# Altium schematic symbol library RJxx.SchLib: 2 symbols
Pins are listed as number, name and electrical type; pins without a type are passive.

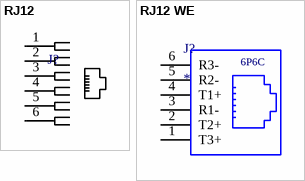
[diagram p0: symbols RJ12 to RJ12 WE]

## RJ12
designator J?  (value not drawn)
Manufacturer: TE CONNECTIVITY / AMP; Manufacturer Part Number: 5520258-3; Supplier 1: Farnell; Supplier Part Number 1: 1214651; Pricing: 10=0.67, 100=0.54, 250=0.48, 600=0.467, 2000=0.463, 6000=0.454, 6000=0.445 (EUR); ComponentLink1URL: http://www.tycoelectronics.com/commerce/DocumentDelivery/DDEController?Action=srchrtrv&DocNm=5520258-3&DocType=Customer+View+Model&DocLang=English; ComponentLink1Description: http://www.tycoelectronics.com/commerce/DocumentDelivery/DDEController?Action=srchrtrv&DocNm=5520258-3&DocType=Customer+View+Model&DocLang=English; ComponentLink2URL: http://www.tycoelectronics.com/commerce/DocumentDelivery/DDEController?Action=srchrtrv&DocNm=5520258&DocType=Customer+Drawing&DocLang=English; ComponentLink2Description: http://www.tycoelectronics.com/commerce/DocumentDelivery/DDEController?Action=srchrtrv&DocNm=5520258&DocType=Customer+Drawing&DocLang=English; ComponentLink3URL: http://www.farnell.com/datasheets/492544.pdf; ComponentLink3Description: http://www.farnell.com/datasheets/492544.pdf
footprint RJ12
pins: 1, 2, 3, 4, 5, 6

## RJ12 WE
designator J?
WR-COM Modular Jack Horizontal Half-shielded 1x1 TH    6P6C Tab Down; Manufacturer 1: Wuerth Elektronik eiSos GmbH; Manufacturer Part Number: 615006143421; ComponentLink1 Description: Manufacturer; ComponentLink2 Description: Datasheet; NoPins: 6; ComponentLink1URL: http://www.we-online.de; ComponentLink2URL: http://katalog.we-online.de/em/datasheet/615006143421.pdf; Created by: Karrer Zheng; Created Date: 10/22/2014; Supplier 1: Farnell; Supplier Part Number 1: 2442740
footprint 615006143421
pins: 1 T3+, 2 T2+, 3 R1-, 4 T1+, 5 R2-, 6 R3-
text: 6P6C